# EAGLE library part RN42_BLUETOOTH (library Moodlight)
RN42 Bluetooth module
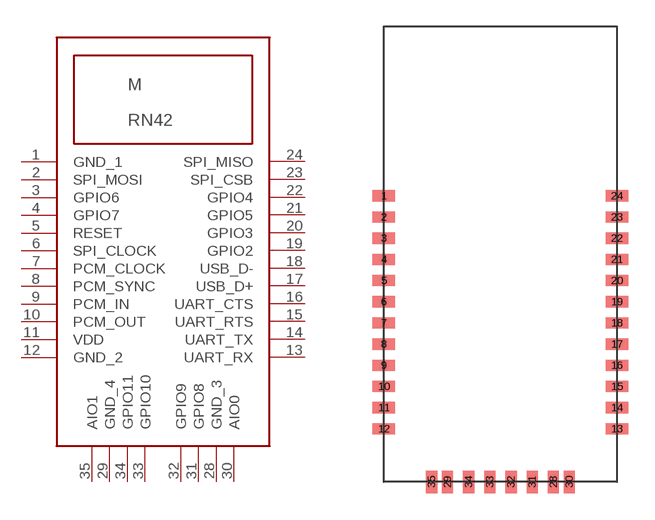
[diagram p4: symbol with the pads of RN42_BLUETOOTH; footprint RN42_BLUETOOTH]

Designator prefix M

## RN42_BLUETOOTH  [RN42_BLUETOOTH]
1  GND_1
2  SPI_MOSI
3  GPIO6
4  GPIO7
5  RESET
6  SPI_CLOCK
7  PCM_CLOCK
8  PCM_SYNC
9  PCM_IN
10  PCM_OUT
11  VDD
12  GND_2
13  UART_RX
14  UART_TX
15  UART_RTS
16  UART_CTS
17  USB_D+
18  USB_D-
19  GPIO2
20  GPIO3
21  GPIO5
22  GPIO4
23  SPI_CSB
24  SPI_MISO
28  GND_3
29  GND_4
30  AIO0
31  GPIO8
32  GPIO9
33  GPIO10
34  GPIO11
35  AIO1

## Footprint RN42_BLUETOOTH (pad centres in mm)
RN42 Bluetooth module
smd 1.27 x 0.635: 1 -6.6,0; 2 -6.6,-1.2; 3 -6.6,-2.4; 4 -6.6,-3.6; 5 -6.6,-4.8; 6 -6.6,-6; 7 -6.6,-7.2; 8 -6.6,-8.4; 9 -6.6,-9.6; 10 -6.6,-10.8; 11 -6.6,-12; 12 -6.6,-13.2; 13 6.6,-13.2; 14 6.6,-12; 15 6.6,-10.8; 16 6.6,-9.6; 17 6.6,-8.4; 18 6.6,-7.2; 19 6.6,-6; 20 6.6,-4.8; 21 6.6,-3.6; 22 6.6,-2.4; 23 6.6,-1.2; 24 6.6,0
smd 0.635 x 1.27: 28 3,-16.2; 29 -3,-16.2; 30 3.9,-16.2; 31 1.8,-16.2; 32 0.6,-16.2; 33 -0.6,-16.2; 34 -1.8,-16.2; 35 -3.9,-16.2